# EAGLE library part MAX4194 (library amp)
MAX4194 Instrumentation AMP. Producted by MAXIM.Co
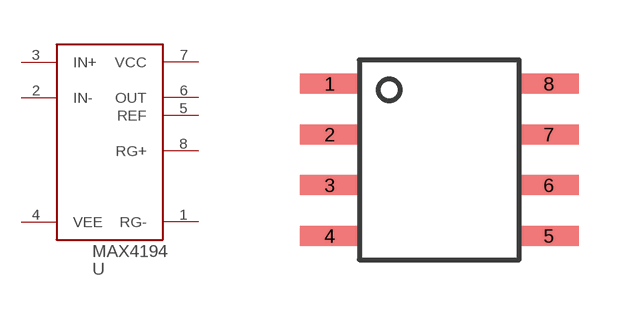
[diagram p0: symbol with the pads of SOIC(8PIN); footprint SOIC(8PIN)]

Designator prefix U

## MAX4194  [SOIC(8PIN)]
1  RG-
2  IN-
3  IN+
4  VEE
5  REF
6  OUT
7  VCC
8  RG+

## Footprint SOIC(8PIN) (pad centres in mm)
4*5mm size , 0.05inch pitch , 8pin pacage
smd 1.5 x 0.5: 1 -2.74,1.905; 2 -2.74,0.635; 3 -2.74,-0.635; 4 -2.74,-1.905; 5 2.74,-1.905; 6 2.74,-0.635; 7 2.74,0.635; 8 2.74,1.905